# Altium schematic symbol library TLV_family.SchLib: 1 symbol
Pins are listed as number, name and electrical type; pins without a type are passive.

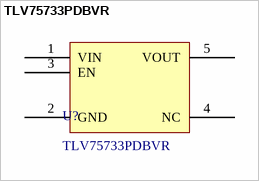
[diagram p0: symbol TLV75733PDBVR]

## TLV75733PDBVR
designator U?
LDO Voltage Regulators 1-A, low-IQ high-accuracy low-dropout (LDO) voltage regulator with enable 5-SOT-23 -40 to 125; Manufacturer: Texas Instruments; Current Output: 1 A; PSRR: 45 dB; Rated Current: 25 uA; Voltage Drop: 425 mV; Voltage Input Maximum: 5.5 V; Voltage Input Minimum: 1.45 V; Voltage Output: 3.3 V; ComponentLink1Description: Datasheet; ComponentLink1URL: https://www.ti.com/lit/gpn/tlv757p; LCSC Part #: C485517; Manufacturer Part Number: TLV75733PDBVR; Mount: SMD/SMT; Operating Temperature Max: + 125 C; Operating Temperature Min: - 40 C; Package / Case: SOT-23-5; Packaging: Tape and Reel; Product: LDO Voltage Regulators; Supplier 1: Mouser; Supplier 1 Part Number: 595-TLV75733PDBVR; Supplier 1 URL: https://www.mouser.com/ProductDetail/Texas-Instruments/TLV75733PDBVR?qs=y6ZabgHbY%252BwAAzSntTW34w%3D%3D; Supplier 2: Digi-Key; Supplier 2 Part Number: 296-50414-2-ND; Supplier 2 URL: https://www.digikey.com/en/products/detail/texas-instruments/tlv75733pdbvr/9343364; Supplier 3: thegioiic; Supplier 3 Part Number: N/A; Supplier 3 URL: N/A; Value: TLV75733PDBVR
footprint TLV757xxPDBVR (SOT23, 5-Leads, Body 2.90x2.80mm, Pitch 0.95mm, IPC Medium Density)
simulation model TLV75733P_TRANS (Model Description)
pins: 1 VIN (power), 2 GND (power), 3 EN (power), 4 NC (power), 5 VOUT (power)